# EAGLE library part ATTINY441/841 (library bschulz)
ATtiny841/441 8 bit AVR Microcontroller Features: (441/841) Vcc: 1.8 ~ 5.5V Clock: Up to 16MHz, Internal 8MHz FRC, 32kHz RC Flash Memory: 4/8K SRAM: 256/512B EEPROM: 256/512B ADC: 10b, 12 port USART: Yes, x2 SPI: Yes I2C: Yes, slave only Notes: 2 analog comp. Digikey: ATTINY841-MMHRCT-ND (VQFN) <https://www.digikey.com/product-detail/en/microchip-technology/ATTINY841-MMHR/ATTINY841-MMHRCT-ND/4437440> ATTINY841-SSU-ND (SOIC) <https://www.digikey.com/product-detail/en/microchip-technology/ATTINY841-SSU/ATTINY841-SSU-ND/4437435>
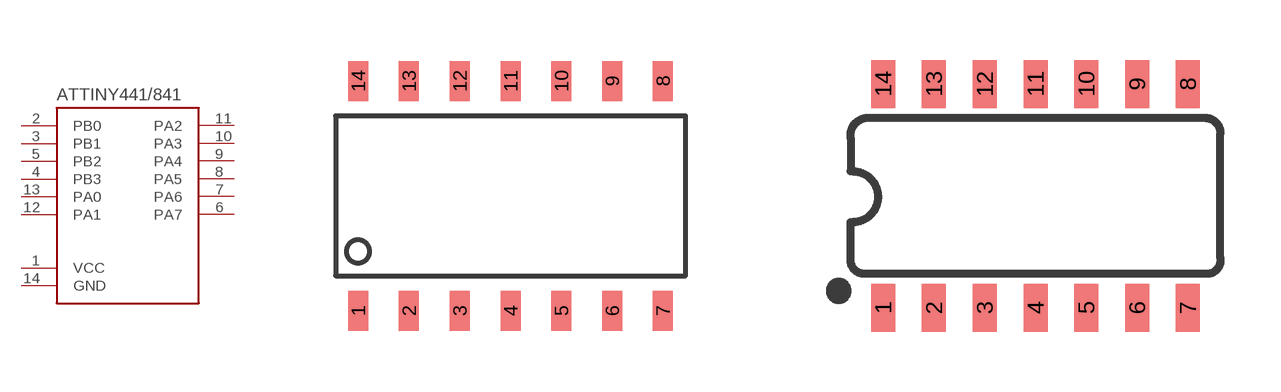
[diagram p10: symbol with the pads of SOIC_14; footprints SOIC_14, SO14]

Designator prefix U

## ATTINY441/841 (MF: Atmel), ATTINY441/841441 (DIGIKEY: ATTINY441-SSU-ND; MF: Atmel; MPN: ATTINY441-SSU), ATTINY441/841841 (DIGIKEY: ATTINY841-SSU-ND; MF: Atmel; MPN: ATTINY841-SSU)  [SOIC_14]
1  VCC
2  PB0
3  PB1
4  PB3
5  PB2
6  PA7
7  PA6
8  PA5
9  PA4
10  PA3
11  PA2
12  PA1
13  PA0
14  GND

## ATTINY441/841SOIC, ATTINY441/841441SOIC (DIGIKEY: ATTINY441-SSURCT-ND; MF: Atmel; MPN: ATTINY441-SSUR), ATTINY441/841841SOIC (DIGIKEY: ATTINY841-SSURCT-ND; MF: Atmel; MPN: ATTINY841-SSUR)  [SO14]
Pads as for SOIC_14

## ATTINY441/841VQFN (DIGIKEY: ATTINY841-MMHRCT-ND; MF: Atmel; MPN: ATTINY841-MMHR)  [VQFN-20]
1  PA4
2  PA3
3  PA2
4  PA1
5  PA0
8  GND
9  VCC
11  PB0
12  PB1
13  PB3
14  PB2
15  PA7
16  PA6
20  PA5
EP  GND

## Footprint SOIC_14 (pad centres in mm)
smd 0.5 x 1: 1 -3.81,-2.875; 2 -2.54,-2.875; 3 -1.27,-2.875; 4 0,-2.875; 5 1.27,-2.875; 6 2.54,-2.875; 7 3.81,-2.875; 8 3.81,2.875; 9 2.54,2.875; 10 1.27,2.875; 11 0,2.875; 12 -1.27,2.875; 13 -2.54,2.875; 14 -3.81,2.875

## Footprint SO14 (pad centres in mm)
SOIC, 0.15 inch width
smd 0.6 x 1.2: 1 -3.175,-2.8; 2 -1.905,-2.8; 3 -0.635,-2.8; 4 0.635,-2.8; 5 1.905,-2.8; 6 3.175,-2.8; 7 4.445,-2.8; 8 4.445,2.8; 9 3.175,2.8; 10 1.905,2.8; 11 0.635,2.8; 12 -0.635,2.8; 13 -1.905,2.8; 14 -3.175,2.8

## Footprint VQFN-20 (pad centres in mm)
VQFN 20 pin, 3x3mm Based on http://www.onsemi.com/pub/Collateral/485BC.PDF
smd 0.8 x 0.25: 1 -1.5,0.9; 2 -1.5,0.45; 3 -1.5,0; 4 -1.5,-0.45; 5 -1.5,-0.9; 11 1.5,-0.9; 12 1.5,-0.45; 13 1.5,0; 14 1.5,0.45; 15 1.5,0.9
smd 0.25 x 0.8: 6 -0.9,-1.5; 7 -0.45,-1.5; 8 0,-1.5; 9 0.45,-1.5; 10 0.9,-1.5; 16 0.9,1.5; 17 0.45,1.5; 18 0,1.5; 19 -0.45,1.5; 20 -0.9,1.5
smd 1.7 x 1.7: EP 0,0